# EAGLE library part 2X7 (library headers(2mm))
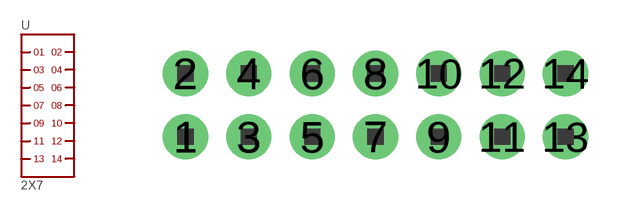
[diagram p7: symbol with the pads of 2X7; footprint 2X7]

Designator prefix -

## 2X7  [2X7]
1  1
2  2
3  3
4  4
5  5
6  6
7  7
8  8
9  9
10  10
11  11
12  12
13  13
14  14

## Footprint 2X7 (pad centres in mm)
drill 0.8 pad 1.422: 1 0,0; 2 0,2; 3 2,0; 4 2,2; 5 4,0; 6 4,2; 7 6,0; 8 6,2; 9 8,0; 10 8,2; 11 10,0; 12 10,2; 13 12,0; 14 12,2